# Altium integrated library Interface - Drivers, Receivers, Transceivers.IntLib: 3 symbols
Pins are listed as number, name and electrical type; pins without a type are passive.

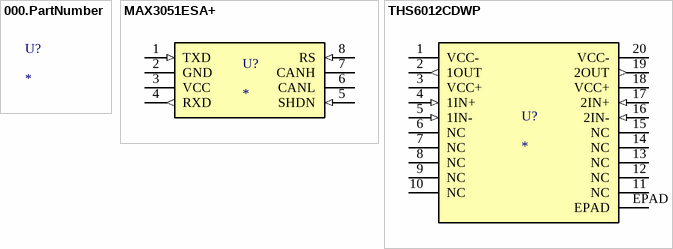
[diagram p0: symbols 000.PartNumber to THS6012CDWP]

## 000.PartNumber
designator U?
Digikey Description; Manufacturer: *; Series: *; Package: *; Type: *; Protocol: *; Number of Drivers/Receivers: *; Duplex: *; Data Rate: *; Voltage - Supply: *; Operating Temperature: *; Mounting Type: *; Package / Case: *; Supplier Device Package: *; Receiver Hysteresis: *; Base Product Number: *; Ozdisan Link: *; Digikey Link: *

## MAX3051ESA+
designator U?
IC TRANSCEIVER HALF 1/1 8SOIC; Manufacturer: Maxim Integrated; Base Product Number: MAX3051; Receiver Hysteresis: 20mV; Voltage - Supply: 3.14V ~ 3.47V; Data Rate: 1Mbps; Protocol: CANbus; Digikey Link: https://www.digikey.com/en/products/detail/maxim-integrated/MAX3051ESA/1514336; Ozdisan Link: https://ozdisan.com/entegre-devreler-ics/interface-entegreleri/driver-receiver-ve-transceiver-entegreleri/MAX3051ESA; Supplier Device Package: 8-SOIC; Package / Case: 8-SOIC (0.154"", 3.90mm Width); Mounting Type: Surface Mount; Operating Temperature: -40°C ~ 85°C; Duplex: Half; Number of Drivers/Receivers: 1/1; Type: Transceiver; Package: Tube; Series: -
footprint MAXIM_8-SOIC
pins: 1 TXD (in), 2 GND (power), 3 VCC (power), 4 RXD (out), 5 SHDN (in), 6 CANL, 7 CANH, 8 RS (in)

## THS6012CDWP
designator U?
IC DRIVER 2/0 20SOPWRPAD; Manufacturer: Texas Instruments; Protocol: DSL; Voltage - Supply: 4.5V ~ 16V; Base Product Number: THS6012; Series: -; Package: Tube; Type: Driver; Number of Drivers/Receivers: 2/0; Duplex: -; Data Rate: -; Operating Temperature: 0°C ~ 70°C; Mounting Type: Surface Mount; Package / Case: 20-SOIC (0.295", 7.50mm Width) Exposed Pad; Supplier Device Package: 20-SO PowerPad; Receiver Hysteresis: -; Ozdisan Link: -; Digikey Link: https://www.digikey.com/en/products/detail/texas-instruments/THS6012CDWP/306245
footprint TI_20-SO-POWERPAD
pins: 1 VCC- (power), 2 1OUT (out), 3 VCC+ (power), 4 1IN+ (in), 5 1IN- (in), 6 NC, 7 NC, 8 NC, 9 NC, 10 NC, 11 NC, 12 NC, 13 NC, 14 NC, 15 NC, 16 2IN- (in), 17 2IN+ (in), 18 VCC+ (power), 19 2OUT (out), 20 VCC- (power), EPAD